# Altium schematic symbol library DS-1022-1_14 (PLS-14R).Schlib: 1 symbol
Pins are listed as number, name and electrical type; pins without a type are passive.

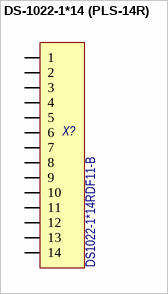
[diagram p0: symbol DS-1022-1*14 (PLS-14R)]

## DS-1022-1*14 (PLS-14R)
designator X?, comment Наименование: DS1022-1*14RDF11-B  (hidden comment: DS1022-1*14RDF11-B (PLS-14R))
2.54mm Pin Header; Назначение: Вилка штыревая 2.54мм 1х14 угловая
footprint PLS-16R (DS-1022-1x14) (2.54mm PIN HEADER R/A)
pins: 1, 2, 3, 4, 5, 6, 7, 8, 9, 10, 11, 12, 13, 14